# Altium schematic symbol library TPD4E05U06.SchLib: 1 symbol
Pins are listed as number, name and electrical type; pins without a type are passive.

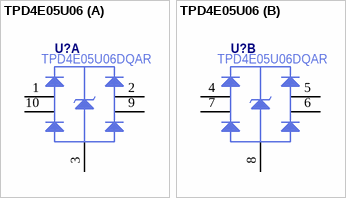
[diagram p0: symbol TPD4E05U06]

## TPD4E05U06
designator U?  Manufacturer Part Number: TPD4E05U06DQAR  (hidden comment: TPD4E05U06)
part A pins: 1 D1+, 2 D1-, 3 GND, 9 NC, 10 NC
part B pins: 4 D2+, 5 D2-, 6 NC, 7 NC, 8 GND